# Altium schematic symbol library CB7JBR220.SchLib: 2 symbols
Pins are listed as number, name and electrical type; pins without a type are passive.

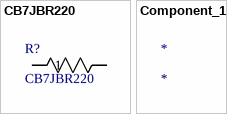
[diagram p0: symbols CB7JBR220 to Component_1]

## CB7JBR220
designator R?
No Description Available; Mfr_Name: Stackpole International; Copyright: Copyright (C) 2022 Ultra Librarian. All rights reserved.; Manufacturer_Part_Number: CB7JBR220; RefDes: RefDes; Type: DEV
footprint RES_CB7_STP
pins: 1, 2

## Component_1
designator *